# EAGLE library part IRF7342D2 (library X893)
http://www.terraelectronica.ru/pdf/IR/IRF7342D2.pdf A-1,2 K-7,8 S-3 D-5,6 G-4
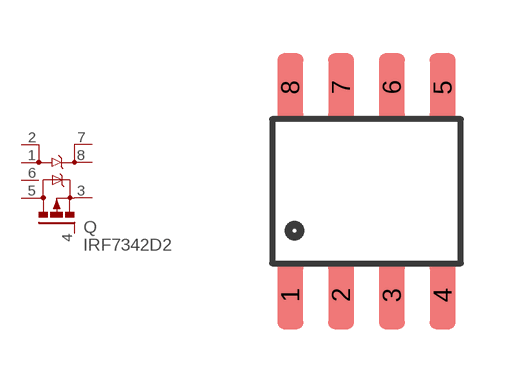
[diagram p41: symbol with the pads of SO08; footprint SO08]

Designator prefix Q

## IRF7342D2  [SO08]
1  A  pas
2  A  pas
3  S  pas
4  G  pas
5  D  pas
6  D  pas
7  K  pas
8  K  pas

## Footprint SO08 (pad centres in mm)
Small Outline Package Fits JEDEC packages (narrow SOIC-8)
smd 0.65 x 1.7: 1 -1.905,-2.6; 2 -0.635,-2.6; 3 0.635,-2.6; 4 1.905,-2.6; 5 1.905,2.6; 6 0.635,2.6; 7 -0.635,2.6; 8 -1.905,2.6